# Altium footprint library SensingBox.PcbLib: 44 footprints (part 3 of 3)
Each footprint in its own frame and in the unit in brackets; x right, y up, seen from the top. Pads: shape width x height; smd on the part's side, far side on the other; paste and mask are expansions set on the pad; w line width, h text height; cw(c..) or ccw(c..) is an arc to the next point about the centre after c.
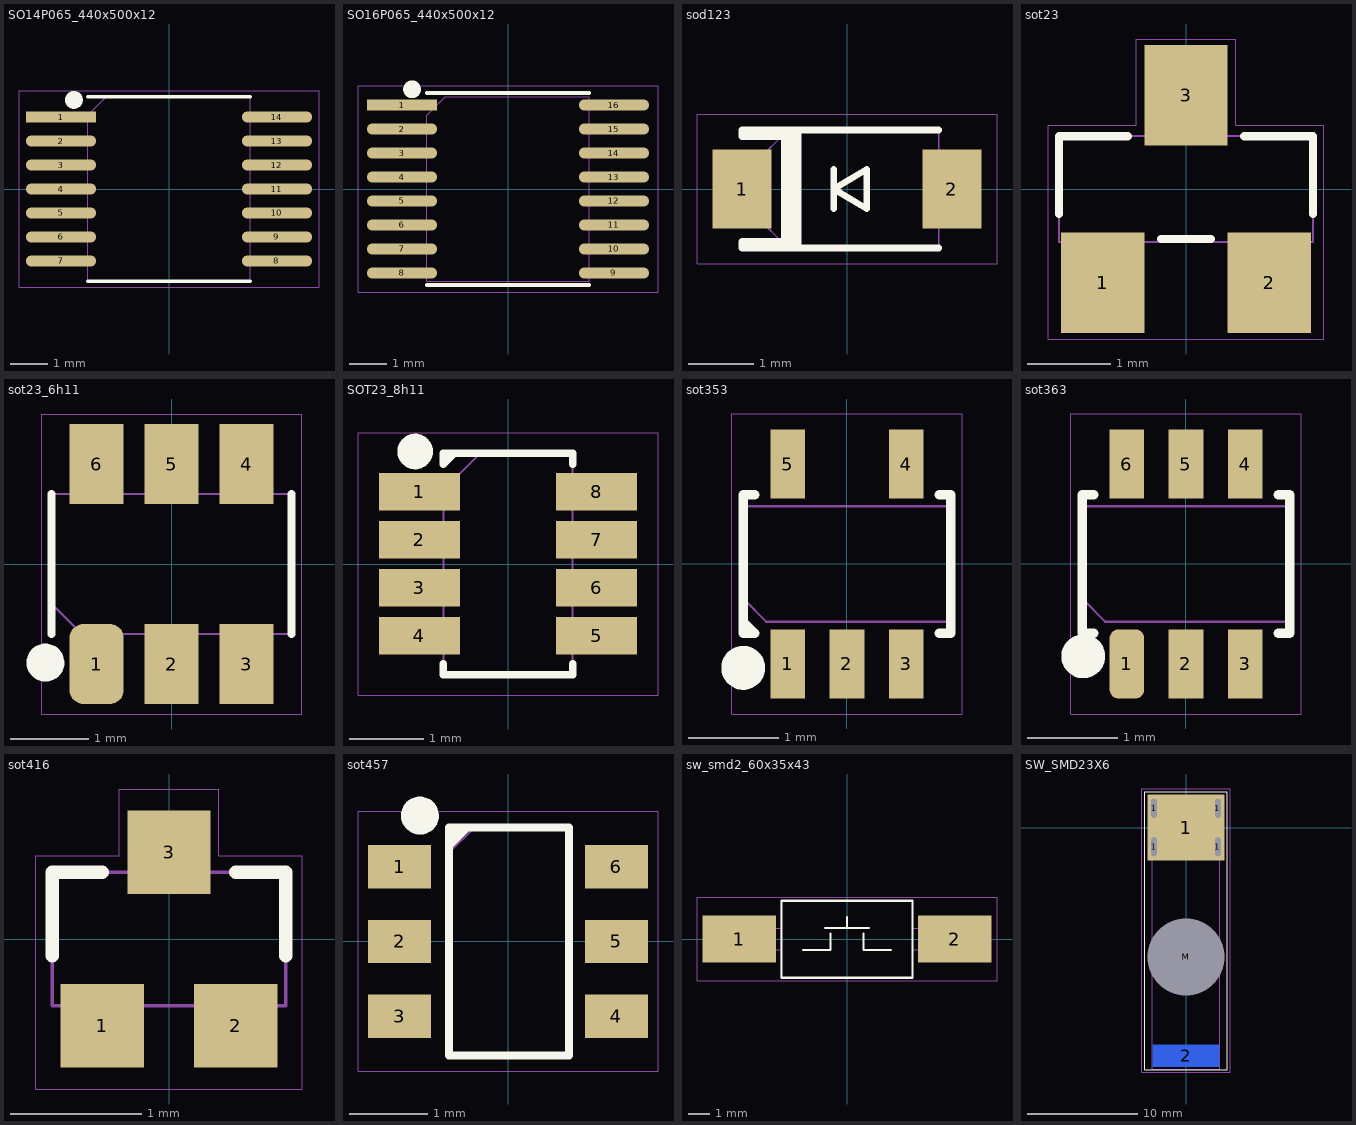
[diagram p2: the footprints below, top view; thin cyan lines are the x and y axes]

## SO14P065_440x500x12 [mm]
pads (14):
  rect 1.9x0.3 smd: 1(-2.925,1.95)
  oval 1.9x0.3 smd: 2(-2.925,1.3) 3(-2.925,0.65) 4(-2.925,0) 5(-2.925,-0.65) 6(-2.925,-1.3) 7(-2.925,-1.95) 8(2.925,-1.95) 9(2.925,-1.3) 10(2.925,-0.65) 11(2.925,0) 12(2.925,0.65) 13(2.925,1.3) 14(2.925,1.95)
Top Overlay:
  circle w0.254: c-2.576,2.413 r0.114
  lines w0.102: -2.2,-2.5 2.2,-2.5 ; -2.2,2.5 2.2,2.5
Mechanical 3:
  lines w0.025: -2.2,-2.5 -2.2,2 -1.7,2.5 2.2,2.5 2.2,-2.5 -2.2,-2.5
Mechanical 5:
  lines w0: -4.064,-2.667 4.064,-2.667 4.064,2.667 -4.064,2.667 -4.064,-2.667
Mechanical 7:
  text ".Designator" at 0.508,0.381 h0.38
3D body: height 1.2, standoff 0, extent -3.2,-2.553 3.2,2.547

## SO16P065_440x500x12 [mm]
pads (16):
  rect 1.9x0.3 smd: 1(-2.87,2.275)
  oval 1.9x0.3 smd: 2(-2.87,1.625) 3(-2.87,0.975) 4(-2.87,0.325) 5(-2.87,-0.325) 6(-2.87,-0.975) 7(-2.87,-1.625) 8(-2.87,-2.275) 9(2.87,-2.275) 10(2.87,-1.625) 11(2.87,-0.975) 12(2.87,-0.325) 13(2.87,0.325) 14(2.87,0.975) 15(2.87,1.625) 16(2.87,2.275)
Top Overlay:
  circle w0.254: c-2.6,2.7 r0.114
  lines w0.102: -2.2,-2.6 2.2,-2.6 ; -2.2,2.6 2.2,2.6
Mechanical 3:
  lines w0.025: -2.2,-2.5 2.2,-2.5 2.2,2.5 -1.7,2.5 -2.2,2 -2.2,-2.5
Mechanical 5:
  lines w0: -4.064,-2.794 4.064,-2.794 4.064,2.794 -4.064,2.794 -4.064,-2.794
Mechanical 7:
  text ".Designator" at 0.254,-0.762 h0.38
3D body: height 1.09, standoff 0, extent -3.14,-2.5 3.14,2.5

## sod123 [mm]
pads (2):
  rect 0.9x1.2 smd: 1(-1.6,0) 2(1.6,0)
Top Overlay:
  region: -1,0.9 -1,-0.9 -0.7,-0.9 -0.7,0.9
  lines w0.102: -0.9,-0.9 -0.9,-0.8 -1.6,-0.8 -1.6,-0.9 1.4,-0.9 ; -0.8,0.9 -0.8,0.8 -1.6,0.8 -1.6,0.9 1.4,0.9 ; -0.2,-0.3 -0.2,0.3 ; -0.2,0 0.3,0.3 0.3,-0.3 -0.2,0
Mechanical 3:
  lines w0.025: -0.9,-0.9 1.4,-0.9 1.4,0.9 -0.9,0.9 ; -0.9,-0.9 -1.4,-0.4 -1.4,0.4 -0.9,0.9 ; -0.9,-0.9 -0.9,0.9 ; -0.9,-0.9 -0.9,-0.9 ; -0.9,0.9 -0.9,0.9
Mechanical 5:
  lines w0: -2.286,-1.143 -2.286,1.143 2.286,1.143 2.286,-1.143 -2.286,-1.143
Mechanical 7:
  text ".Designator" at 0.889,0.254 h0.38
3D body: height 1.28, standoff 0, extent -1.95,-0.902 1.95,0.898

## sot23 [mm]
pads (3):
  rect 1x1.2 smd: 1(-1,-1.125) 2(1,-1.125) 3(0,1.125)
Top Overlay:
  lines w0.102: -1.524,-0.3 -1.524,0.635 -0.7,0.635 ; -0.3,-0.6 0.3,-0.6 ; 0.7,0.635 1.524,0.635 1.524,-0.3
Mechanical 3:
  lines w0.025: -1.524,-0.635 -1.524,0.635 1.524,0.635 1.524,-0.635 -1.524,-0.635
Mechanical 5:
  lines w0: -1.651,-1.8 -1.651,0.762 -0.6,0.762 -0.6,1.8 0.6,1.8 0.6,0.762 1.651,0.762 1.651,-1.8 -1.651,-1.8
Mechanical 7:
  text ".Designator" at 0.508,-2.286 h0.38
3D body: height 1.02, standoff 0, extent -1.46,-1.245 1.46,1.231

## sot23_6h11 [mil]
pads (6):
  rrect50% 27x40 smd: 1(-37.5,-50)
  rect 27x40 smd: 2(0,-50) 3(37.5,-50) 4(37.5,50) 5(0,50) 6(-37.5,50)
Top Overlay:
  lines w4: -60,-35 -60,35 ; 60,-35 60,35
  lines w10: -59.06,-47.24 ccw(c-63.08,-49.26) -58.58,-49.26
Mechanical 3:
  lines w1: -60,-20 -60,35 60,35 60,-35 -45,-35 -60,-20
Mechanical 5:
  lines w0: -65,-75 65,-75 65,75 -65,75 -65,-75
Mechanical 7:
  text ".Designator" at -5,25 h15
3D body: height 42.96, standoff 0, extent -55,-47.6 55,47.9

## SOT23_8h11 [mm]
pads (8):
  rect 1.1x0.508 smd: 1(-1.2,0.976) 2(-1.2,0.326) 3(-1.2,-0.324) 4(-1.2,-0.974) 5(1.2,-0.974) 6(1.2,-0.324) 7(1.2,0.326) 8(1.2,0.976)
Top Overlay:
  circle w0.254: c-1.257,1.524 r0.114
  lines w0.102: -0.875,-1.35 -0.875,-1.5 0.875,-1.5 0.875,-1.35 ; -0.725,1.5 -0.875,1.35 -0.875,1.5 0.875,1.5 0.875,1.35
Mechanical 3:
  lines w0.025: -0.875,-1.5 0.875,-1.5 0.875,1.5 -0.375,1.5 -0.875,1 -0.875,-1.5
Mechanical 5:
  lines w0: -2.032,-1.778 -2.032,1.778 2.032,1.778 2.032,-1.778 -2.032,-1.778
Mechanical 7:
  text ".Designator" at 0.254,-0.762 h0.38
3D body: height 1.1, standoff -0.1, extent -1.4,-1.47 1.4,1.47

## sot353 [mil]
pads (5):
  rect 15x30 smd: 1(-25.6,-43.3) 2(0,-43.3) 3(25.6,-43.3) 4(25.6,43.3) 5(-25.6,43.3)
Top Overlay:
  circle w10: c-45,-45 r4.5
  lines w4: -45,-25 -40,-30 -45,-30 -45,30 -40,30 ; 40,-30 45,-30 45,30 40,30
Mechanical 3:
  lines w1: -45,-15 -35,-25 45,-25 45,25 -45,25 -45,-15
Mechanical 5:
  lines w0: -50,-65 -50,65 50,65 50,-65 -50,-65
Mechanical 7:
  text ".Designator" at -9.49,-10.79 h15
3D body: height 37.4, standoff 0, extent -39.24,-41.34 39.5,41.34

## sot363 [mil]
pads (6):
  rrect50% 15x30 smd: 1(-25.6,-43.3)
  rect 15x30 smd: 2(0,-43.3) 3(25.6,-43.3) 4(25.6,43.3) 5(0,43.3) 6(-25.6,43.3)
Top Overlay:
  circle w10: c-44.5,-40 r4.5
  lines w4: -40,-30 -45,-30 -45,30 -40,30 ; 40,-30 45,-30 45,30 40,30
Mechanical 3:
  lines w1: -45,-15 -35,-25 45,-25 45,25 -45,25 -45,-15
Mechanical 5:
  lines w0: -50,-65 50,-65 50,65 -50,65 -50,-65
Mechanical 7:
  text ".Designator" at 30,10 h15
3D body: height 37.4, standoff 0, extent -39,-41.34 39.74,41.34

## sot416 [mil]
pads (3):
  rect 25x25 smd: 1(-20,-26) 2(20,-26) 3(0,26)
Top Overlay:
  lines w4: -35,-5 -35,20 -20,20 ; 20,20 35,20 35,-5
Mechanical 3:
  lines w1: -35,-20 -35,20 35,20 35,-20 -35,-20
Mechanical 5:
  lines w0: -40,-45 40,-45 40,25 15,25 15,45 -15,45 -15,25 -40,25 -40,-45
Mechanical 7:
  text ".Designator" at -60,30 h15
3D body: height 27.92, standoff 0, extent -31.5,-32 31.5,30.99

## sot457 [mm]
pads (6):
  rect 0.8x0.55 smd: 1(-1.375,0.95) 2(-1.375,0) 3(-1.375,-0.95) 4(1.375,-0.95) 5(1.375,0) 6(1.375,0.95)
Top Overlay:
  region: -0.727,1.427 -0.727,1.173 -0.473,1.427
  lines w0.102: -0.75,-1.45 -0.75,1.45 0.775,1.45 0.775,-1.45 -0.75,-1.45
  lines w0.254: -1.016,1.651 ccw(c-1.118,1.6) -1.004,1.6
Mechanical 3:
  lines w0.025: -0.75,-1.45 -0.75,1.125 -0.425,1.45 0.775,1.45 0.775,-1.45 -0.75,-1.45
Mechanical 5:
  lines w0: -1.905,-1.651 1.905,-1.651 1.905,1.651 -1.905,1.651 -1.905,-1.651
Mechanical 7:
  text ".Designator" at -0.635,-0.254 h0.38
3D body: height 1.03, standoff 0, extent -1.385,-1.5 1.386,1.5

## sw_smd2_60x35x43 [mm]
pads (2):
  rect 3.35x2.16 smd: 1(-4.925,0) 2(4.925,0)
Top Overlay:
  lines w0.102: -2,-0.5 -0.75,-0.5 -0.75,0.25 ; -1,0.5 1,0.5 ; 0,0.5 0,1 ; 0.75,0.25 0.75,-0.5 2,-0.5 ; -3,-1.775 3,-1.775 3,1.75 -3,1.75 -3,-1.775
Mechanical 3:
  lines w0.025: -3,-0.5 -5,-0.5 -5,0.5 -3,0.5 ; 3,-0.5 5,-0.5 5,0.5 3,0.5 ; -3,-1.75 3,-1.75 3,1.75 -3,1.75 -3,-1.75
Mechanical 5:
  lines w0: -6.858,-1.905 6.858,-1.905 6.858,1.905 -6.858,1.905 -6.858,-1.905
Mechanical 7:
  text ".Designator" at -0.508,-0.127 h0.38
3D body: height 4.3, standoff -0.7, extent -5.2,-1.75 5.2,1.75

## SW_SMD23X6 [mm]
pads (7):
  rect 1x2 hole 0.5 slot 1.7 at 90 deg: 1(-2.9,-1.75) 1(-2.9,1.75) 1(2.9,-1.75) 1(2.9,1.75)
  rect 7x6 smd: 1(0,0)
  rect 6x2 smd far side paste-1: 2(0,-20.75)
  rect 1x1 hole 7 square unplated: M(0,-11.75)
Top Overlay:
  lines w0.102: -3.75,-22 -3.75,3.25 3.75,3.25 3.75,-22 -3.75,-22
Mechanical 3:
  lines w0.025: -3.048,-21.971 -3.048,2.5 3.048,2.5 3.048,-21.971 -3.048,-21.971
Mechanical 5:
  lines w0: -4,-22.25 -4,3.5 4,3.5 4,-22.25 -4,-22.25
Mechanical 7:
  text ".Designator" at -1,-12 h0.38
3D body: height 2.68, standoff -4, extent -3.05,-21.943 3.05,2.5